# Altium footprint library FBK_PcbLib.PcbLib: 17 footprints (part 2 of 2)
Each footprint in its own frame and in the unit in brackets; x right, y up, seen from the top. Pads: shape width x height; smd on the part's side, far side on the other; paste and mask are expansions set on the pad; w line width, h text height; cw(c..) or ccw(c..) is an arc to the next point about the centre after c.
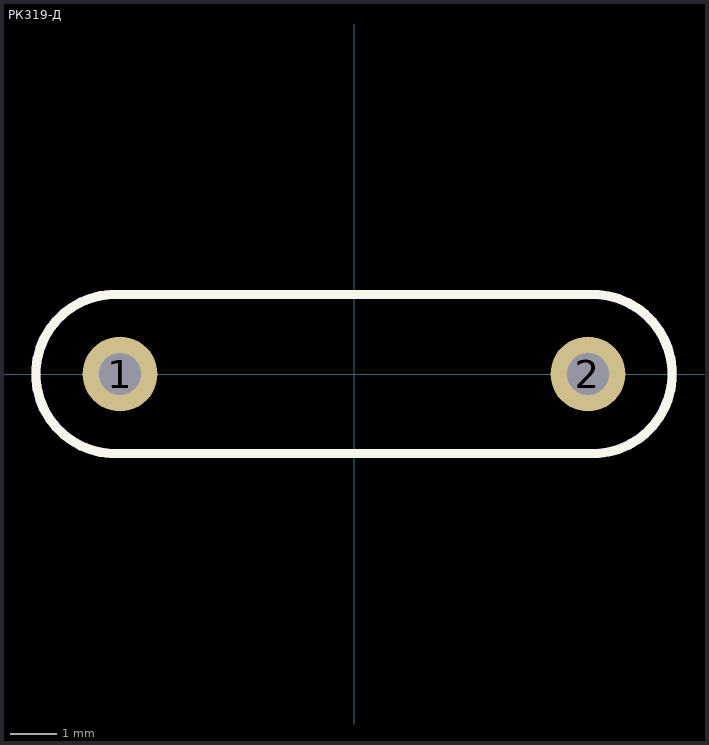
[diagram p1: the footprint, top view; thin cyan lines are the x and y axes]

## РК319-Д [mm]
pads (2):
  round 1.6 hole 0.9: 1(-5,0) 2(5,0)
Top Overlay:
  lines w0.2: -5.2,-1.7 cw(c-5.097,0) -5.2,1.7 5,1.7 cw(c5.097,0) 5,-1.7 -5.2,-1.7
Mechanical 1:
  lines w0.2: -5.3,-1.7 5.15,-1.7 ; -5.3,1.7 5.125,1.7 ; -5.025,-1.7 cw(c-5.098,0) -5.025,1.7 ; 5.1,-1.7 ccw(c5.1,0) 5.1,1.7
3D body: height 3.6, standoff 0, extent -6.801,-1.702 6.801,1.702